# EAGLE library part SPARK_PHOTON (library template_temp)
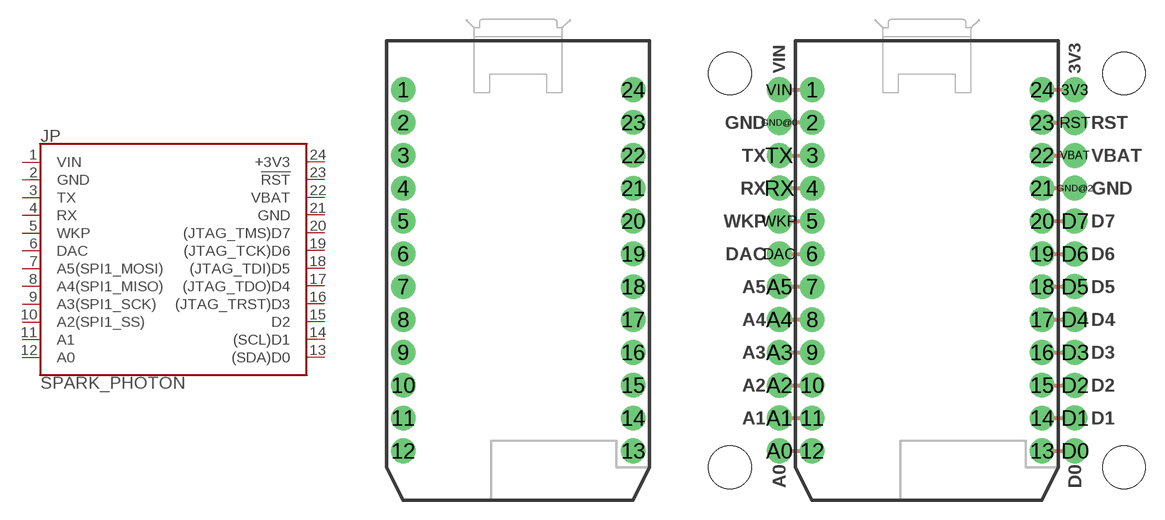
[diagram p0: symbol with the pads of SPARK_PHOTON; footprints SPARK_PHOTON, SPARK_PHOTON_TEMPLATE]

Designator prefix JP

## SPARK_PHOTON  [SPARK_PHOTON]
1  VIN
2  GND
3  TX
4  RX
5  WKP
6  DAC
7  A5(SPI1_MOSI)
8  A4(SPI1_MISO)
9  A3(SPI1_SCK)
10  A2(SPI1_SS)
11  A1
12  A0
13  (SDA)D0
14  (SCL)D1
15  D2
16  (JTAG_TRST)D3
17  (JTAG_TDO)D4
18  (JTAG_TDI)D5
19  (JTAG_TCK)D6
20  (JTAG_TMS)D7
21  GND
22  VBAT
23  !RST!
24  +3V3

## SPARK_PHOTONTEMPLATE  [SPARK_PHOTON_TEMPLATE]
1  VIN
2  GND
3  TX
3V3  +3V3
4  RX
5  WKP
6  DAC
7  A5(SPI1_MOSI)
8  A4(SPI1_MISO)
9  A3(SPI1_SCK)
10  A2(SPI1_SS)
11  A1
12  A0
13  (SDA)D0
14  (SCL)D1
15  D2
16  (JTAG_TRST)D3
17  (JTAG_TDO)D4
18  (JTAG_TDI)D5
19  (JTAG_TCK)D6
20  (JTAG_TMS)D7
21  GND
22  VBAT
23  !RST!
24  +3V3
A0  A0
A1  A1
A2  A2(SPI1_SS)
A3  A3(SPI1_SCK)
A4  A4(SPI1_MISO)
A5  A5(SPI1_MOSI)
D0  (SDA)D0
D1  (SCL)D1
D2  D2
D3  (JTAG_TRST)D3
D4  (JTAG_TDO)D4
D5  (JTAG_TDI)D5
D6  (JTAG_TCK)D6
D7  (JTAG_TMS)D7
DAC  DAC
GND@0  GND
GND@2  GND
RST  !RST!
RX  RX
TX  TX
VBAT  VBAT
VIN  VIN
WKP  WKP

## Footprint SPARK_PHOTON (pad centres in mm)
drill 1.016 pad 1.905: 1 1.27,31.75; 2 1.27,29.21; 3 1.27,26.67; 4 1.27,24.13; 5 1.27,21.59; 6 1.27,19.05; 7 1.27,16.51; 8 1.27,13.97; 9 1.27,11.43; 10 1.27,8.89; 11 1.27,6.35; 12 1.27,3.81; 13 19.05,3.81; 14 19.05,6.35; 15 19.05,8.89; 16 19.05,11.43; 17 19.05,13.97; 18 19.05,16.51; 19 19.05,19.05; 20 19.05,21.59; 21 19.05,24.13; 22 19.05,26.67; 23 19.05,29.21; 24 19.05,31.75

## Footprint SPARK_PHOTON_TEMPLATE (pad centres in mm)
drill 1.016 pad 1.905: 1 1.27,31.75; 2 1.27,29.21; 3 1.27,26.67; 4 1.27,24.13; 5 1.27,21.59; 6 1.27,19.05; 7 1.27,16.51; 8 1.27,13.97; 9 1.27,11.43; 10 1.27,8.89; 11 1.27,6.35; 12 1.27,3.81; 13 19.05,3.81; 14 19.05,6.35; 15 19.05,8.89; 16 19.05,11.43; 17 19.05,13.97; 18 19.05,16.51; 19 19.05,19.05; 20 19.05,21.59; 21 19.05,24.13; 22 19.05,26.67; 23 19.05,29.21; 24 19.05,31.75
drill 1.016 pad 1.93: 3V3 21.59,31.75; A0 -1.27,3.81; A1 -1.27,6.35; A2 -1.27,8.89; A3 -1.27,11.43; A4 -1.27,13.97; A5 -1.27,16.51; D0 21.59,3.81; D1 21.59,6.35; D2 21.59,8.89; D3 21.59,11.43; D4 21.59,13.97; D5 21.59,16.51; D6 21.59,19.05; D7 21.59,21.59; DAC -1.27,19.05; GND@0 -1.27,29.21; GND@2 21.59,24.13; RST 21.59,29.21; RX -1.27,24.13; TX -1.27,26.67; VBAT 21.59,26.67; VIN -1.27,31.75; WKP -1.27,21.59
hole 3.302 at -5.08,33.02
hole 3.302 at 25.4,33.02
hole 3.302 at -5.08,2.54
hole 3.302 at 25.4,2.54